# Altium schematic symbol library HearLibrirySCH.SchLib: 12 symbols
Pins are listed as number, name and electrical type; pins without a type are passive.

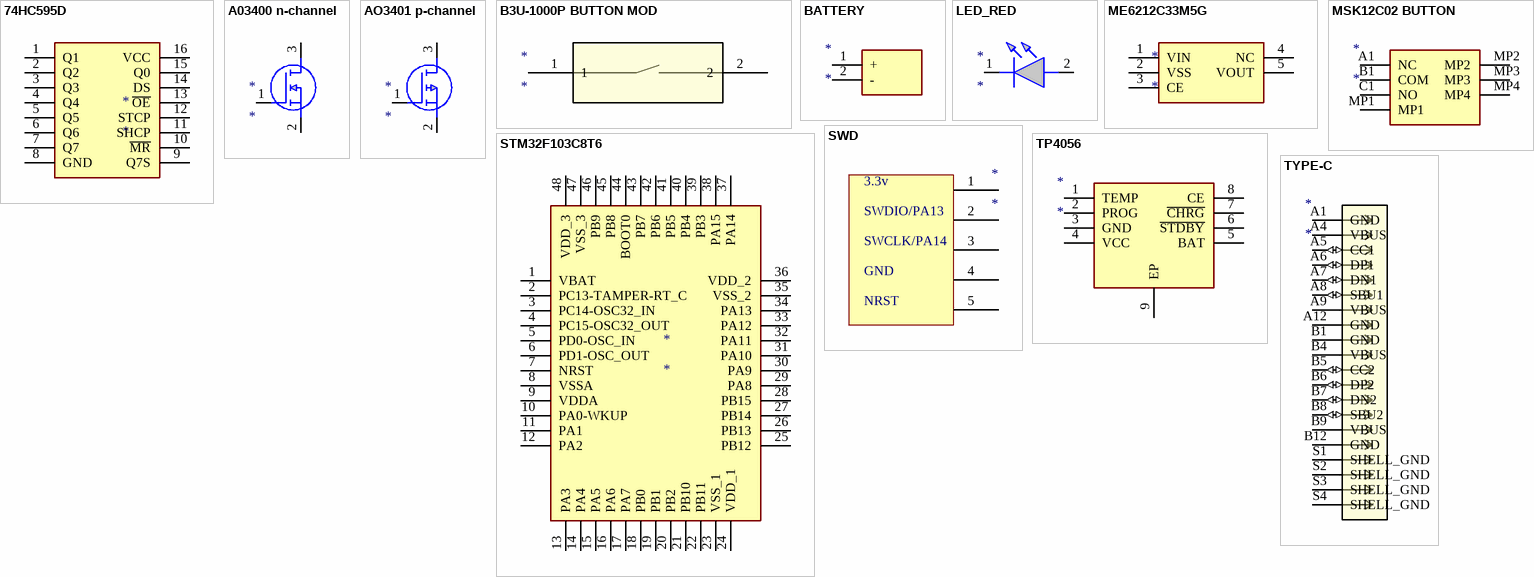
[diagram p0: symbols 74HC595D to TYPE-C]

## 74HC595D
designator *
footprint 74HC595D
pins: 1 Q1, 2 Q2, 3 Q3, 4 Q4, 5 Q5, 6 Q6, 7 Q7, 8 GND, 9 Q7S, 10 ~{MR}, 11 SHCP, 12 STCP, 13 ~{OE}, 14 DS, 15 Q0, 16 VCC

## A03400 n-channel
designator *
footprint A03400
pins: 1 G, 2 S, 3 D

## AO3401 p-channel
designator *
footprint AO3401
pins: 1 G, 2 S, 3 D

## B3U-1000P BUTTON MOD
designator *
footprint B3U-1000P BUTTON MOD
pins: 1, 2

## BATTERY
designator *
footprint BATTERY
pins: 1 +, 2 -

## LED_RED
designator *
footprint LED_RED
pins: 1 K, 2 A

## ME6212C33M5G
designator *
footprint ME6212C33M5G/3.3
pins: 1 VIN, 2 VSS, 3 CE, 4 NC, 5 VOUT

## MSK12C02 BUTTON
designator *
footprint MSK12C02 BUTTON
pins: A1 NC, B1 COM, C1 NO, MP1, MP2, MP3, MP4

## STM32F103C8T6
designator *
footprint STM32F103C8T6
pins: 1 VBAT, 2 PC13-TAMPER-RT_C, 3 PC14-OSC32_IN, 4 PC15-OSC32_OUT, 5 PD0-OSC_IN, 6 PD1-OSC_OUT, 7 NRST, 8 VSSA, 9 VDDA, 10 PA0-WKUP, 11 PA1, 12 PA2, 13 PA3, 14 PA4, 15 PA5, 16 PA6, 17 PA7, 18 PB0, 19 PB1, 20 PB2, 21 PB10, 22 PB11, 23 VSS_1, 24 VDD_1, 25 PB12, 26 PB13, 27 PB14, 28 PB15, 29 PA8, 30 PA9, 31 PA10, 32 PA11, 33 PA12, 34 PA13, 35 VSS_2, 36 VDD_2, 37 PA14, 38 PA15, 39 PB3, 40 PB4, 41 PB5, 42 PB6, 43 PB7, 44 BOOT0, 45 PB8, 46 PB9, 47 VSS_3, 48 VDD_3

## SWD
designator *
footprint SWD
pins: 1, 2, 3, 4, 5
text: 3.3v; SWDIO/PA13; SWCLK/PA14; GND; NRST

## TP4056
designator *
footprint TP4056
pins: 1 TEMP, 2 PROG, 3 GND, 4 VCC, 5 BAT, 6 ~{STDBY}, 7 ~{CHRG}, 8 CE, 9 EP

## TYPE-C
designator *
footprint USB-C
pins: A1 GND (power), A4 VBUS (power), A5 CC1 (io), A6 DP1 (io), A7 DN1 (io), A8 SBU1 (io), A9 VBUS (power), A12 GND (power), B1 GND (power), B4 VBUS (power), B5 CC2 (io), B6 DP2 (io), B7 DN2 (io), B8 SBU2 (io), B9 VBUS (power), B12 GND (power), S1 SHELL_GND (power), S2 SHELL_GND (power), S3 SHELL_GND (power), S4 SHELL_GND (power)